# EAGLE library part BQ24650 (library zz-upenn)
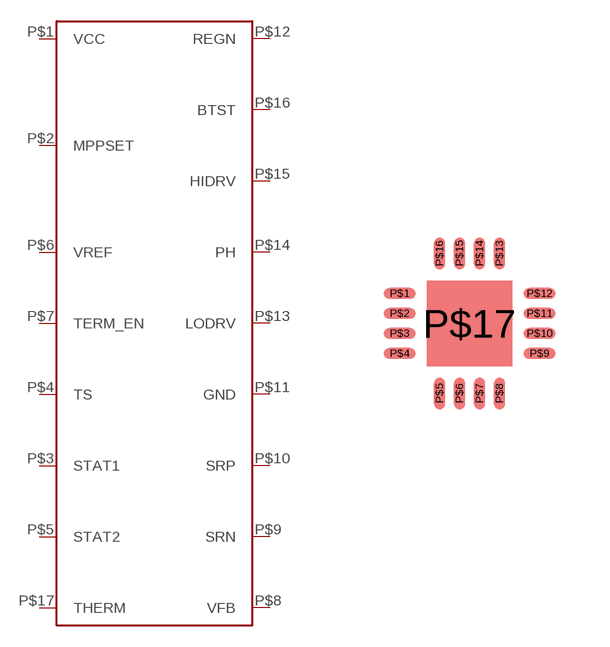
[diagram p25: symbol with the pads of QFN16; footprint QFN16]

Designator prefix -

## BQ24650  [QFN16]
P$1  VCC
P$2  MPPSET
P$3  STAT1
P$4  TS
P$5  STAT2
P$6  VREF
P$7  TERM_EN
P$8  VFB
P$9  SRN
P$10  SRP
P$11  GND
P$12  REGN
P$13  LODRV
P$14  PH
P$15  HIDRV
P$16  BTST
P$17  THERM

## Footprint QFN16 (pad centres in mm)
smd 0.8 x 0.28: P$1 -1.75,0.75; P$2 -1.75,0.25; P$3 -1.75,-0.25; P$4 -1.75,-0.75; P$9 1.75,-0.75; P$10 1.75,-0.25; P$11 1.75,0.25; P$12 1.75,0.75
smd 0.28 x 0.8: P$5 -0.75,-1.75; P$6 -0.25,-1.75; P$7 0.25,-1.75; P$8 0.75,-1.75; P$13 0.75,1.75; P$14 0.25,1.75; P$15 -0.25,1.75; P$16 -0.75,1.75
smd 2.14 x 2.14: P$17 0,0